# Altium footprint library 691 252 810 0xx.PcbLib: 2 footprints
Each footprint in its own frame and in the unit in brackets; x right, y up, seen from the top. Pads: shape width x height; smd on the part's side, far side on the other; paste and mask are expansions set on the pad; w line width, h text height; cw(c..) or ccw(c..) is an arc to the next point about the centre after c.
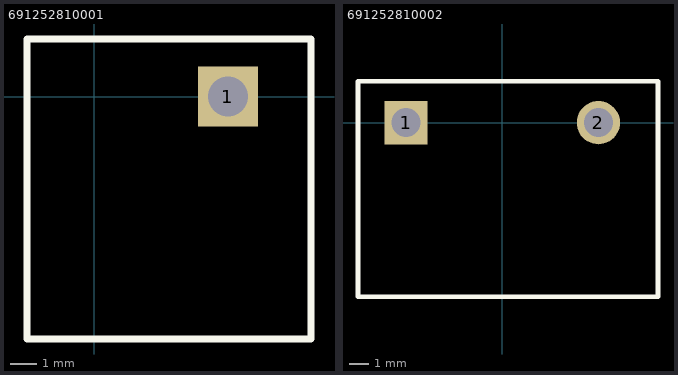
[diagram p0: the footprints below, top view; thin cyan lines are the x and y axes]

## 691252810001 [mm] "Serie 2528 - 10.00 mm _ 1 pin"
height 17.5
pads (1):
  rect 2.25x2.25 hole 1.5: 1(5,0)
Top Overlay:
  lines w0.254: -2.5,-9.05 -2.5,2.15 8.1,2.15 8.1,-9.05 -2.5,-9.05
3D body: height 17.7, standoff -2.8, extent -2.505,-9.05 8.1,2.15

## 691252810002 [mm] "Serie 2528 - 10.00 mm _ 2 pins"
height 17.5
pads (2):
  rect 2.25x2.25 hole 1.5: 1(-5,0)
  round 2.25 hole 1.5: 2(5,0)
Top Overlay:
  lines w0.254: -7.5,-9.05 -7.5,2.15 8.1,2.15 8.1,-9.05 -7.5,-9.05
3D body: height 17.7, standoff -2.8, extent -7.5,-9 8.1,2.2